# Altium schematic symbol library IQ解调器-原理图.SchLib: 12 symbols
Pins are listed as number, name and electrical type; pins without a type are passive.

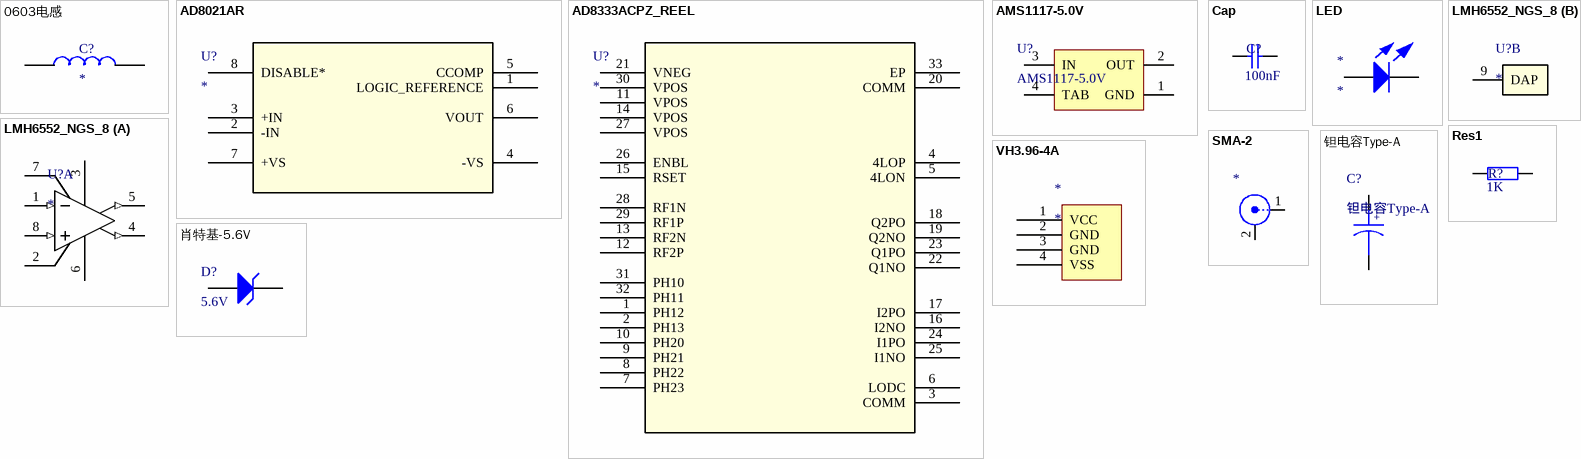
[diagram p0: symbols 0603电感 to 钽电容Type-A]

## 0603电感
designator C?
0603电感
footprint 0603R
pins: 1, 2

## AD8021AR
designator U?
Imported; Manufacturer_Part_Number: AD8021AR; Vendor: Vendor; Value: Value; Type: Type; RefDes: Refdes
footprint R_8
footprint R_8_L
footprint R_8_M
pins: 1 LOGIC_REFERENCE, 2 -IN, 3 +IN, 4 -VS (power), 5 CCOMP, 6 VOUT, 7 +VS (power), 8 DISABLE*

## AD8333ACPZ_REEL
designator U?
Imported; Value: Value; Type: Type; RefDes: RefDes
footprint CP_32_2
pins: 1 PH12, 2 PH13, 3 COMM (power), 4 4LOP, 5 4LON, 6 LODC, 7 PH23, 8 PH22, 9 PH21, 10 PH20, 11 VPOS, 12 RF2P, 13 RF2N, 14 VPOS, 15 RSET (power), 16 I2NO, 17 I2PO, 18 Q2PO, 19 Q2NO, 20 COMM, 21 VNEG, 22 Q1NO, 23 Q1PO, 24 I1PO, 25 I1NO, 26 ENBL (power), 27 VPOS, 28 RF1N, 29 RF1P, 30 VPOS, 31 PH10, 32 PH11, 33 EP

## AMS1117-5.0V
designator U?
footprint SOT223
pins: 1 GND (power), 2 OUT (power), 3 IN (power), 4 TAB (power)

## Cap
designator C?  value 100nF  (hidden comment: Cap)
无极性电容; Published: 8-Jun-2000; LatestRevisionDate: 17-Jul-2002; LatestRevisionNote: Re-released for DXP Platform.; PackageReference: RAD-0.3; Publisher: Altium Limited
footprint 0603C
pins: 1, 2

## LED
designator *
footprint 0805
pins: 1 A, 2 K

## LMH6552_NGS_8
designator U?
Imported; PartNumber: LMH6552SD; Manufacturer: NationalSemiconductor; CompType: Amplifiers; PackageTopMarking: XYTT6552; ComponentLink1DescBC: LMH6552Datasheet; ComponentLink2DescA4: LMH6552WebPage; ComponentLink3DescAC: SDA08CPackagePage; Published: 4-Dec-2008; LatestRevisionDate: 13-Jan-2009; LatestRevisionNote: SimModelAdded; DatasheetVersion: Sep-2007; PackageVersion: revAJan-2004; PackageReference: SDA08C; Publisher: AltiumLimited; PackageDescription: LLPPlasticDual25x30x08mmBody8Lead05mmPitchNoPullback; RoHS: Y; PinCount: 8; DigiKeyPartNumber: LMH6552SDEVAL-ND; ComponentLink1URL: http//wwwnationalcom/ds/LM/LMH6552pdf; ComponentLink2URL: http//wwwnationalcom/pf/LM/LMH6552html; ComponentLink3URL: http//wwwnationalcom/packaging/folders/sda08chtml; Value: Value
footprint SDA08C
footprint LC-SOIC-8_150mil
part A pins: 1 IN- (in), 2 VCM, 3 V+ (power), 4 OUT+ (out), 5 OUT- (out), 6 V- (power), 7 EN, 8 IN+ (in)
part B pins: 9 DAP

## Res1
designator R?  value 1K  (hidden comment: Res1)
贴片电阻; Published: 8-Jun-2000; LatestRevisionDate: 17-Jul-2002; LatestRevisionNote: Re-released for DXP Platform.; PackageReference: AXIAL-0.4; Publisher: Altium Limited
footprint 0603R
pins: 1, 2

## SMA-2
designator *, comment SMA  (value not drawn)
footprint SMA-2
pins: 1 Signal, 2 GND

## VH3.96-4A
designator *
footprint VH3.96-4P
footprint VH3.96-4P
footprint VH3.96-4P
pins: 1 VCC, 2 GND, 3 GND, 4 VSS

## 肖特基-5.6V
designator D?, comment 5.6V
footprint SMA/DO-214AC
pins: 1 A, 2 K

## 钽电容Type-A
designator C?
footprint 3216C-TYPE_A
pins: 1, 2
text: +